# EAGLE library part CP3UB17G38 (library national CP3000)
National CP3UB17G38 connectivity processor
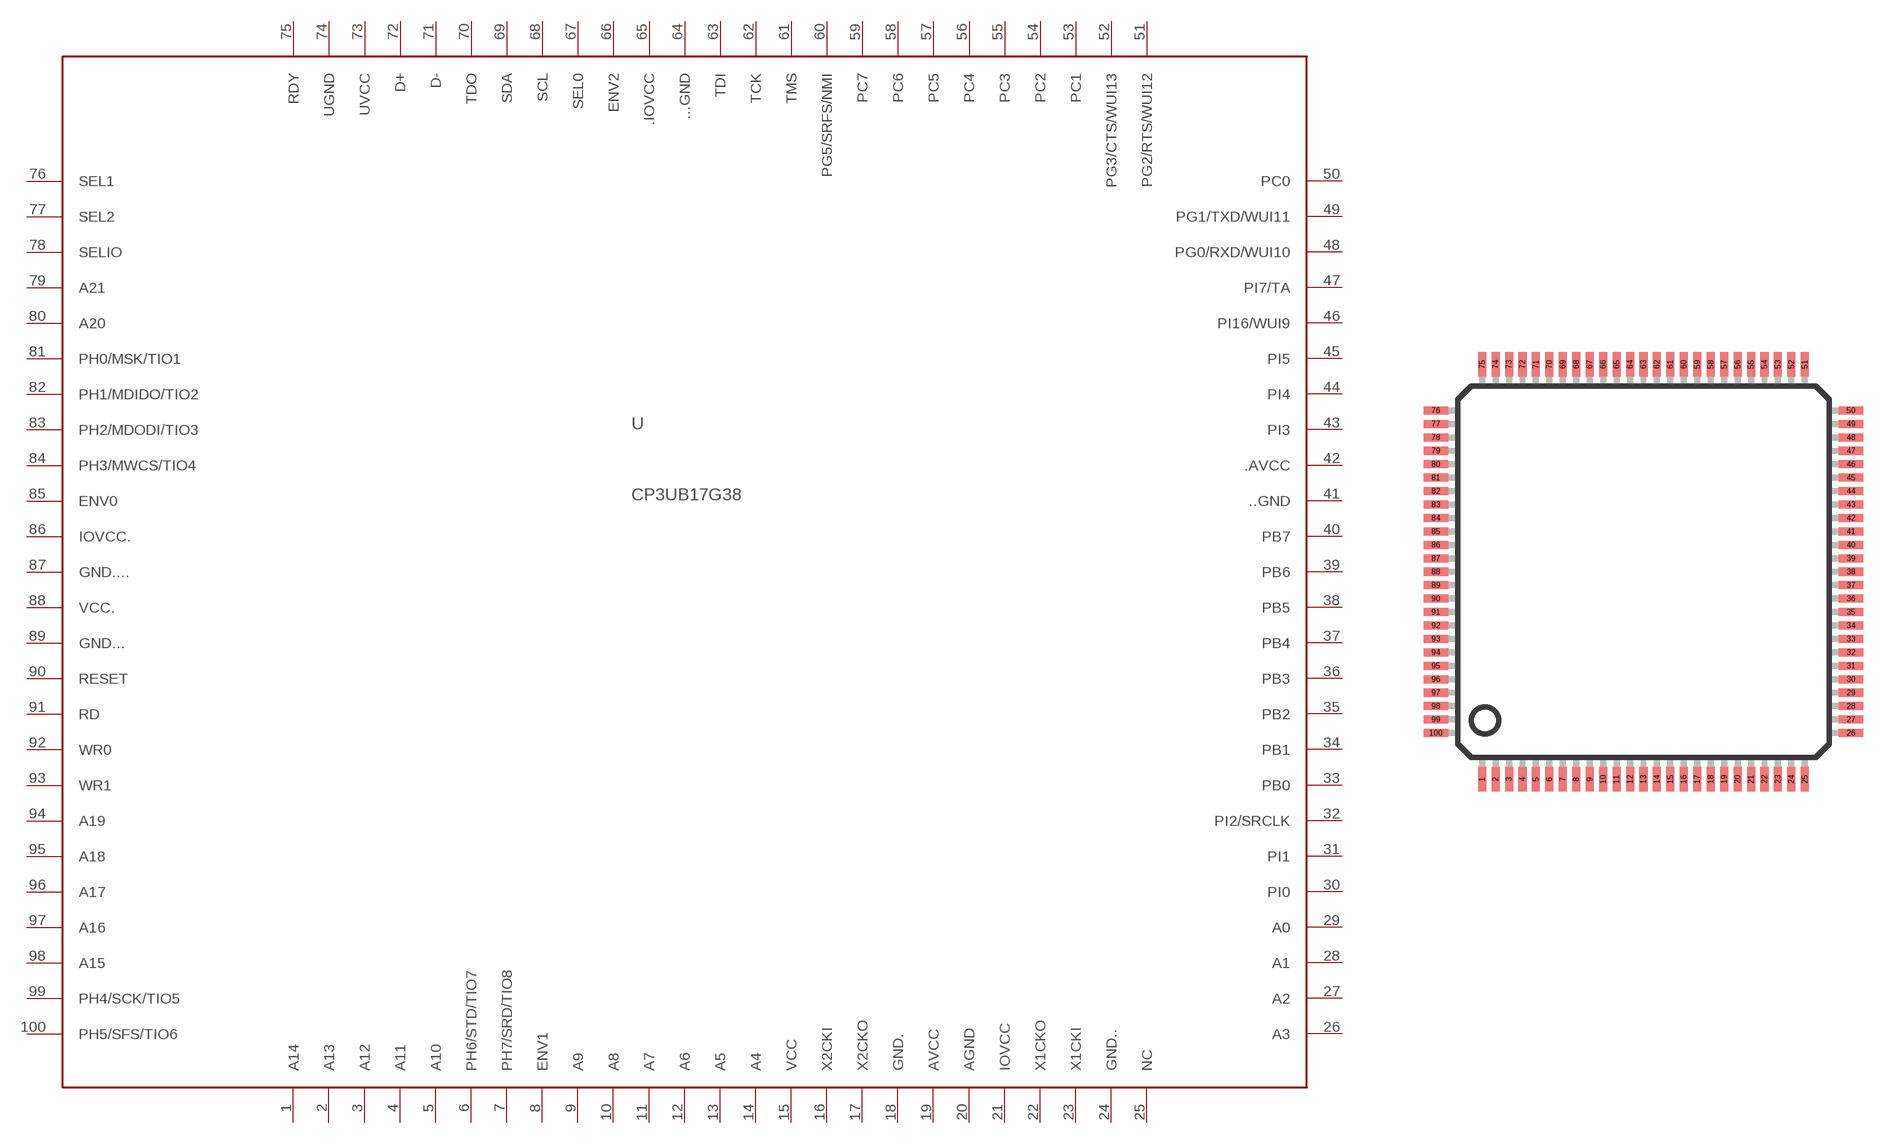
[diagram p0: symbol with the pads of LQFP100; footprint LQFP100]

Designator prefix -

## CP3UB17G38  [LQFP100]
1  A14
2  A13
3  A12
4  A11
5  A10
6  PH6/STD/TIO7
7  PH7/SRD/TIO8
8  ENV1
9  A9
10  A8
11  A7
12  A6
13  A5
14  A4
15  VCC
16  X2CKI
17  X2CKO
18  GND.
19  AVCC
20  AGND
21  IOVCC
22  X1CKO
23  X1CKI
24  GND..
25  NC
26  A3
27  A2
28  A1
29  A0
30  PI0
31  PI1
32  PI2/SRCLK
33  PB0
34  PB1
35  PB2
36  PB3
37  PB4
38  PB5
39  PB6
40  PB7
41  ..GND
42  .AVCC
43  PI3
44  PI4
45  PI5
46  PI16/WUI9
47  PI7/TA
48  PG0/RXD/WUI10
49  PG1/TXD/WUI11
50  PC0
51  PG2/RTS/WUI12
52  PG3/CTS/WUI13
53  PC1
54  PC2
55  PC3
56  PC4
57  PC5
58  PC6
59  PC7
60  PG5/SRFS/NMI
61  TMS
62  TCK
63  TDI
64  ...GND
65  .IOVCC
66  ENV2
67  SEL0
68  SCL
69  SDA
70  TDO
71  D-
72  D+
73  UVCC
74  UGND
75  RDY
76  SEL1
77  SEL2
78  SELIO
79  A21
80  A20
81  PH0/MSK/TIO1
82  PH1/MDIDO/TIO2
83  PH2/MDODI/TIO3
84  PH3/MWCS/TIO4
85  ENV0
86  IOVCC.
87  GND....
88  VCC.
89  GND...
90  RESET
91  RD
92  WR0
93  WR1
94  A19
95  A18
96  A17
97  A16
98  A15
99  PH4/SCK/TIO5
100  PH5/SFS/TIO6

## Footprint LQFP100 (pad centres in mm)
Low Profile Quad Flat Pack
smd 0.3 x 0.9: 1 -6,-7.72; 2 -5.5,-7.72; 3 -5,-7.72; 4 -4.5,-7.72; 5 -4,-7.72; 6 -3.5,-7.72; 7 -3,-7.72; 8 -2.5,-7.72; 9 -2,-7.72; 10 -1.5,-7.72; 11 -1,-7.72; 12 -0.5,-7.72; 13 0,-7.72; 14 0.5,-7.72; 15 1,-7.72; 16 1.5,-7.72; 17 2,-7.72; 18 2.5,-7.72; 19 3,-7.72; 20 3.5,-7.72; 21 4,-7.72; 22 4.5,-7.72; 23 5,-7.72; 24 5.5,-7.72; 25 6,-7.72; 51 6,7.72; 52 5.5,7.72; 53 5,7.72; 54 4.5,7.72; 55 4,7.72; 56 3.5,7.72; 57 3,7.72; 58 2.5,7.72; 59 2,7.72; 60 1.5,7.72; 61 1,7.72; 62 0.5,7.72; 63 0,7.72; 64 -0.5,7.72; 65 -1,7.72; 66 -1.5,7.72; 67 -2,7.72; 68 -2.5,7.72; 69 -3,7.72; 70 -3.5,7.72; 71 -4,7.72; 72 -4.5,7.72; 73 -5,7.72; 74 -5.5,7.72; 75 -6,7.72
smd 0.9 x 0.3: 26 7.72,-6; 27 7.72,-5.5; 28 7.72,-5; 29 7.72,-4.5; 30 7.72,-4; 31 7.72,-3.5; 32 7.72,-3; 33 7.72,-2.5; 34 7.72,-2; 35 7.72,-1.5; 36 7.72,-1; 37 7.72,-0.5; 38 7.72,0; 39 7.72,0.5; 40 7.72,1; 41 7.72,1.5; 42 7.72,2; 43 7.72,2.5; 44 7.72,3; 45 7.72,3.5; 46 7.72,4; 47 7.72,4.5; 48 7.72,5; 49 7.72,5.5; 50 7.72,6; 76 -7.72,6; 77 -7.72,5.5; 78 -7.72,5; 79 -7.72,4.5; 80 -7.72,4; 81 -7.72,3.5; 82 -7.72,3; 83 -7.72,2.5; 84 -7.72,2; 85 -7.72,1.5; 86 -7.72,1; 87 -7.72,0.5; 88 -7.72,0; 89 -7.72,-0.5; 90 -7.72,-1; 91 -7.72,-1.5; 92 -7.72,-2; 93 -7.72,-2.5; 94 -7.72,-3; 95 -7.72,-3.5; 96 -7.72,-4; 97 -7.72,-4.5; 98 -7.72,-5; 99 -7.72,-5.5; 100 -7.72,-6